# EAGLE library part IC_PIC_18P_16F88,628_ (library mylib_20130829)
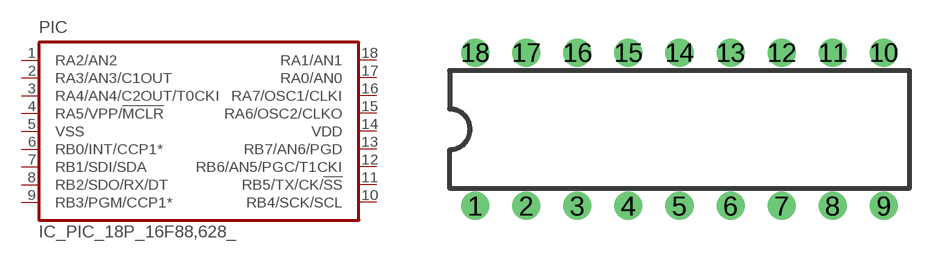
[diagram p2: symbol with the pads of IC_SOCKET_DIL_18; footprint IC_SOCKET_DIL_18]

Designator prefix PIC

## IC_PIC_18P_16F88,628_88  [IC_SOCKET_DIL_18]
1  RA2/AN2
2  RA3/AN3/C1OUT
3  RA4/AN4/C2OUT/T0CKI
4  RA5/VPP/!MCLR
5  VSS  pwr
6  RB0/INT/CCP1*
7  RB1/SDI/SDA
8  RB2/SDO/RX/DT
9  RB3/PGM/CCP1*
10  RB4/SCK/SCL
11  RB5/TX/CK/!SS
12  RB6/AN5/PGC/T1CKI
13  RB7/AN6/PGD
14  VDD  pwr
15  RA6/OSC2/CLKO
16  RA7/OSC1/CLKI
17  RA0/AN0
18  RA1/AN1

## Footprint IC_SOCKET_DIL_18 (pad centres in mm)
Dual In Line Package
drill 0.889: 1 -10.16,-3.81; 2 -7.62,-3.81; 3 -5.08,-3.81; 4 -2.54,-3.81; 5 0,-3.81; 6 2.54,-3.81; 7 5.08,-3.81; 8 7.62,-3.81; 9 10.16,-3.81; 10 10.16,3.81; 11 7.62,3.81; 12 5.08,3.81; 13 2.54,3.81; 14 0,3.81; 15 -2.54,3.81; 16 -5.08,3.81; 17 -7.62,3.81; 18 -10.16,3.81